# EAGLE library part LM324KAD (library LM324KAD)
Check availability <https://pricing.snapeda.com/parts/LM324KAD/Texas%20Instruments/view-part?ref=eda>
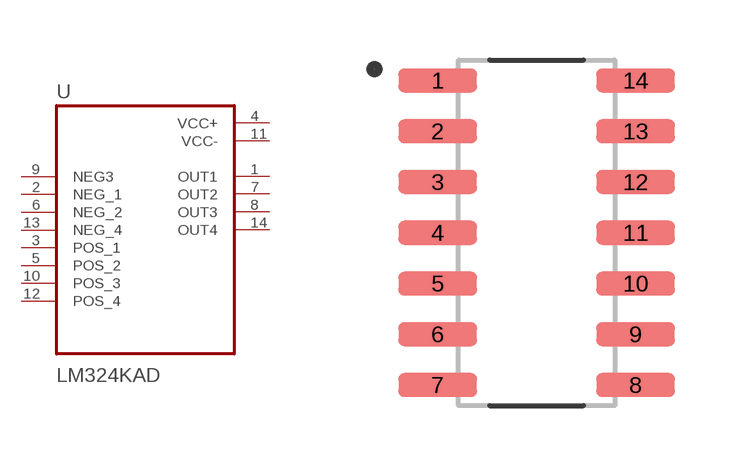
[diagram p0: symbol with the pads of SOIC127P600X175-14N; footprint SOIC127P600X175-14N]

Designator prefix U

## LM324KAD (Availability: In Stock; Check_prices: https://www.snapeda.com/parts/LM324KAD/Texas+Instruments/view-part/?ref=eda; Description: Quad, 30-V, 1.2-MHz, 3-mV offset voltage, improved ESD (2kV) operational amplifier; MF: Texas Instruments; MP: LM324KAD; Package: SOIC-14 Texas Instruments; Price: None; Purchase-URL: https://www.snapeda.com/api/url_track_click_mouser/?unipart_id=497506&manufacturer=Texas Instruments&part_name=LM324KAD&search_term=lm324; SnapEDA_Link: https://www.snapeda.com/parts/LM324KAD/Texas+Instruments/view-part/?ref=snap)  [SOIC127P600X175-14N]
1  OUT1  out
2  NEG_1  in
3  POS_1  in
4  VCC+  pwr
5  POS_2  in
6  NEG_2  in
7  OUT2  out
8  OUT3  out
9  NEG3  in
10  POS_3  in
11  VCC-  pwr
12  POS_4  in
13  NEG_4  in
14  OUT4  out

## Footprint SOIC127P600X175-14N (pad centres in mm)
smd 1.97 x 0.6: 1 -2.475,3.81; 2 -2.475,2.54; 3 -2.475,1.27; 4 -2.475,0; 5 -2.475,-1.27; 6 -2.475,-2.54; 7 -2.475,-3.81; 8 2.475,-3.81; 9 2.475,-2.54; 10 2.475,-1.27; 11 2.475,0; 12 2.475,1.27; 13 2.475,2.54; 14 2.475,3.81